# Altium schematic symbol library SCH - MCU - STM32 - ST MICROELECTRONICS STM32F303VCYX WLCSP100.SchLib: 1 symbol
Pins are listed as number, name and electrical type; pins without a type are passive.

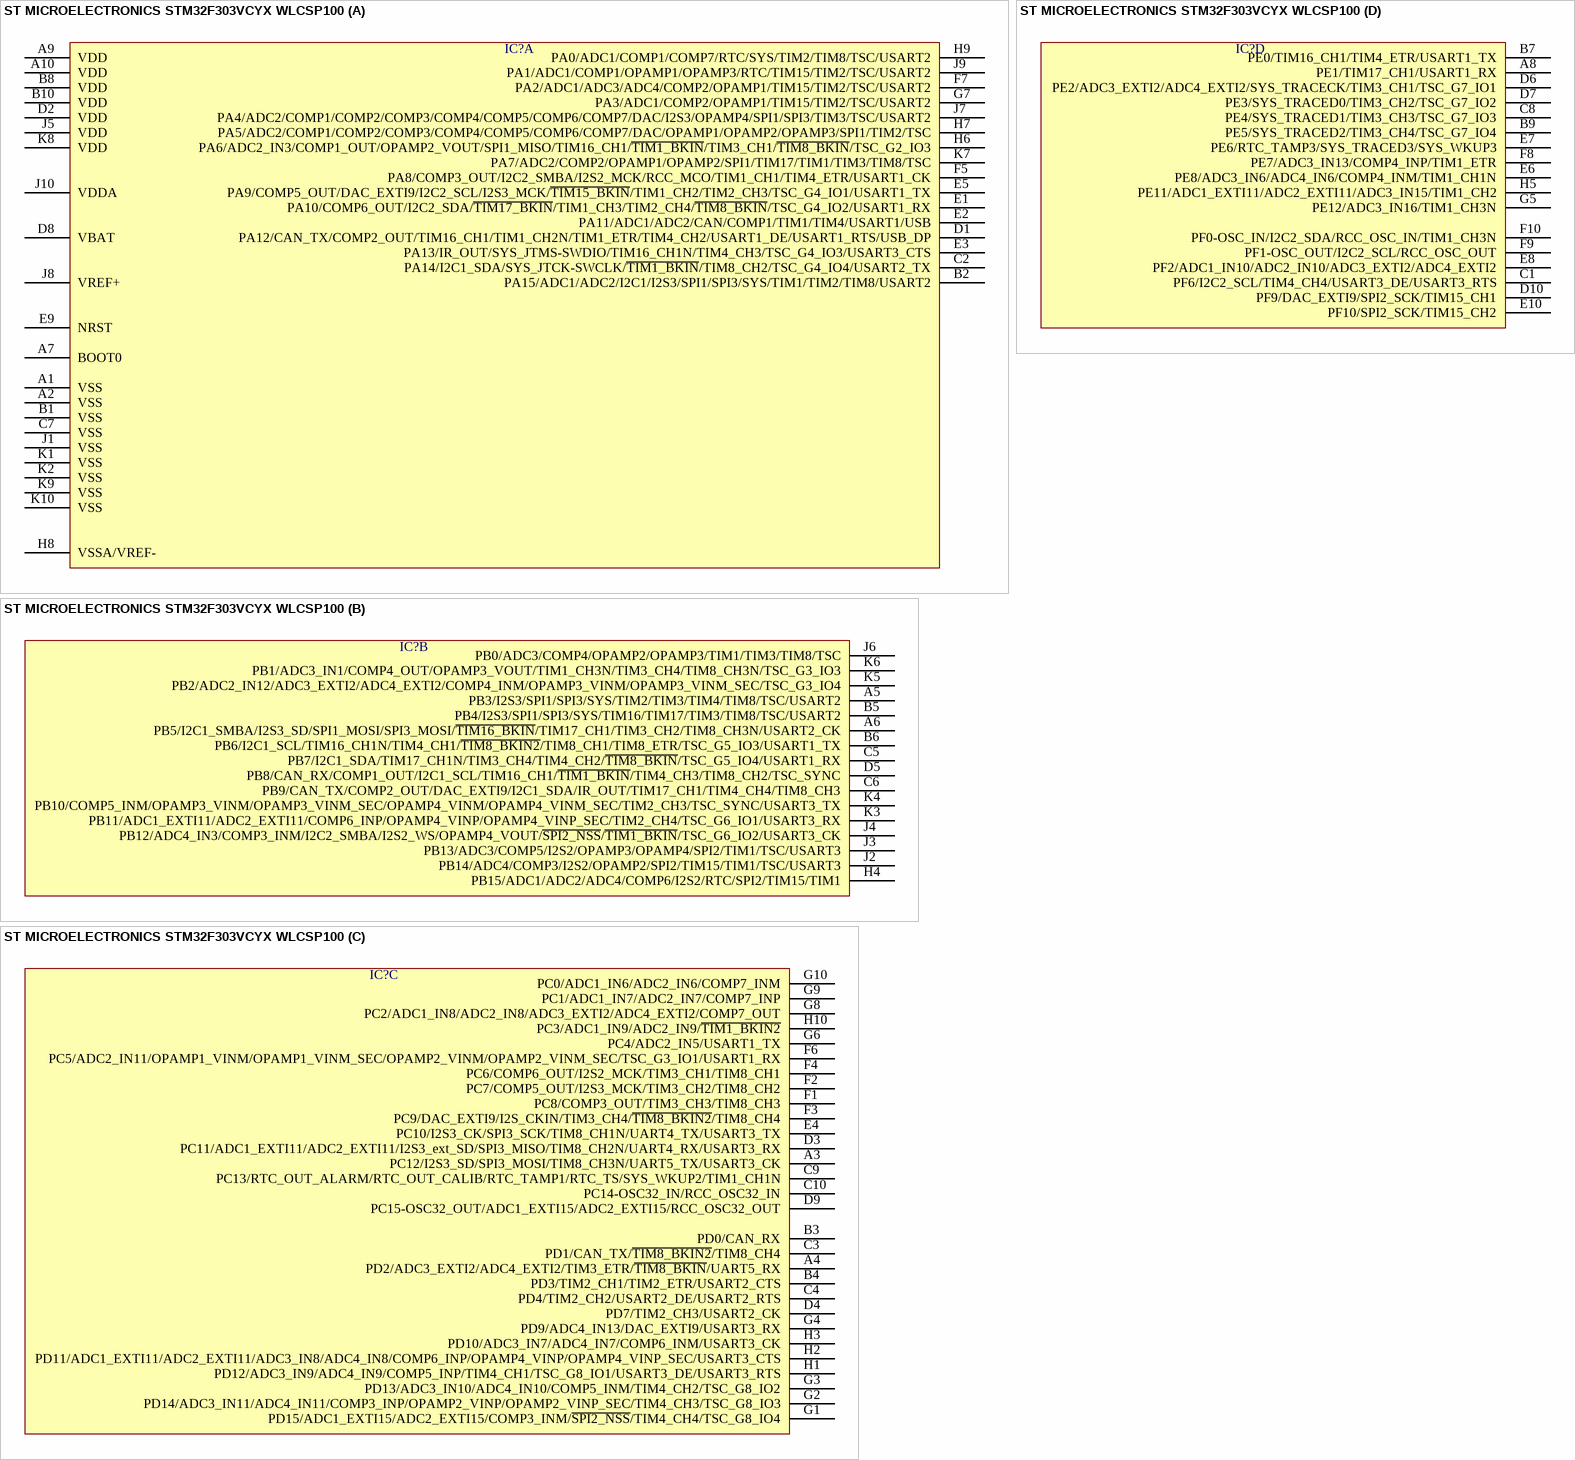
[diagram p0: symbol ST MICROELECTRONICS STM32F303VCYX WLCSP100]

## ST MICROELECTRONICS STM32F303VCYX WLCSP100
designator IC?  (value not drawn)
part A pins: A1 VSS, A2 VSS, A7 BOOT0, A9 VDD, A10 VDD, B1 VSS, B2 PA15/ADC1/ADC2/I2C1/I2S3/SPI1/SPI3/SYS/TIM1/TIM2/TIM8/USART2, B8 VDD, B10 VDD, C2 PA14/I2C1_SDA/SYS_JTCK-SWCLK/~{TIM1_BKIN}/TIM8_CH2/TSC_G4_IO4/USART2_TX, C7 VSS, D1 PA12/CAN_TX/COMP2_OUT/TIM16_CH1/TIM1_CH2N/TIM1_ETR/TIM4_CH2/USART1_DE/USART1_RTS/USB_DP, D2 VDD, D8 VBAT, E1 PA10/COMP6_OUT/I2C2_SDA/~{TIM17_BKIN}/TIM1_CH3/TIM2_CH4/~{TIM8_BKIN}/TSC_G4_IO2/USART1_RX, E2 PA11/ADC1/ADC2/CAN/COMP1/TIM1/TIM4/USART1/USB, E3 PA13/IR_OUT/SYS_JTMS-SWDIO/TIM16_CH1N/TIM4_CH3/TSC_G4_IO3/USART3_CTS, E5 PA9/COMP5_OUT/DAC_EXTI9/I2C2_SCL/I2S3_MCK/~{TIM15_BKIN}/TIM1_CH2/TIM2_CH3/TSC_G4_IO1/USART1_TX, E9 NRST, F5 PA8/COMP3_OUT/I2C2_SMBA/I2S2_MCK/RCC_MCO/TIM1_CH1/TIM4_ETR/USART1_CK, F7 PA2/ADC1/ADC3/ADC4/COMP2/OPAMP1/TIM15/TIM2/TSC/USART2, G7 PA3/ADC1/COMP2/OPAMP1/TIM15/TIM2/TSC/USART2, H6 PA6/ADC2_IN3/COMP1_OUT/OPAMP2_VOUT/SPI1_MISO/TIM16_CH1/~{TIM1_BKIN}/TIM3_CH1/~{TIM8_BKIN}/TSC_G2_IO3, H7 PA5/ADC2/COMP1/COMP2/COMP3/COMP4/COMP5/COMP6/COMP7/DAC/OPAMP1/OPAMP2/OPAMP3/SPI1/TIM2/TSC, H8 VSSA/VREF-, H9 PA0/ADC1/COMP1/COMP7/RTC/SYS/TIM2/TIM8/TSC/USART2, J1 VSS, J5 VDD, J7 PA4/ADC2/COMP1/COMP2/COMP3/COMP4/COMP5/COMP6/COMP7/DAC/I2S3/OPAMP4/SPI1/SPI3/TIM3/TSC/USART2, J8 VREF+, J9 PA1/ADC1/COMP1/OPAMP1/OPAMP3/RTC/TIM15/TIM2/TSC/USART2, J10 VDDA, K1 VSS, K2 VSS, K7 PA7/ADC2/COMP2/OPAMP1/OPAMP2/SPI1/TIM17/TIM1/TIM3/TIM8/TSC, K8 VDD, K9 VSS, K10 VSS
part B pins: A5 PB3/I2S3/SPI1/SPI3/SYS/TIM2/TIM3/TIM4/TIM8/TSC/USART2, A6 PB5/I2C1_SMBA/I2S3_SD/SPI1_MOSI/SPI3_MOSI/~{TIM16_BKIN}/TIM17_CH1/TIM3_CH2/TIM8_CH3N/USART2_CK, B5 PB4/I2S3/SPI1/SPI3/SYS/TIM16/TIM17/TIM3/TIM8/TSC/USART2, B6 PB6/I2C1_SCL/TIM16_CH1N/TIM4_CH1/~{TIM8_BKIN2}/TIM8_CH1/TIM8_ETR/TSC_G5_IO3/USART1_TX, C5 PB7/I2C1_SDA/TIM17_CH1N/TIM3_CH4/TIM4_CH2/~{TIM8_BKIN}/TSC_G5_IO4/USART1_RX, C6 PB9/CAN_TX/COMP2_OUT/DAC_EXTI9/I2C1_SDA/IR_OUT/TIM17_CH1/TIM4_CH4/TIM8_CH3, D5 PB8/CAN_RX/COMP1_OUT/I2C1_SCL/TIM16_CH1/~{TIM1_BKIN}/TIM4_CH3/TIM8_CH2/TSC_SYNC, H4 PB15/ADC1/ADC2/ADC4/COMP6/I2S2/RTC/SPI2/TIM15/TIM1, J2 PB14/ADC4/COMP3/I2S2/OPAMP2/SPI2/TIM15/TIM1/TSC/USART3, J3 PB13/ADC3/COMP5/I2S2/OPAMP3/OPAMP4/SPI2/TIM1/TSC/USART3, J4 PB12/ADC4_IN3/COMP3_INM/I2C2_SMBA/I2S2_WS/OPAMP4_VOUT/~{SPI2_NSS}/~{TIM1_BKIN}/TSC_G6_IO2/USART3_CK, J6 PB0/ADC3/COMP4/OPAMP2/OPAMP3/TIM1/TIM3/TIM8/TSC, K3 PB11/ADC1_EXTI11/ADC2_EXTI11/COMP6_INP/OPAMP4_VINP/OPAMP4_VINP_SEC/TIM2_CH4/TSC_G6_IO1/USART3_RX, K4 PB10/COMP5_INM/OPAMP3_VINM/OPAMP3_VINM_SEC/OPAMP4_VINM/OPAMP4_VINM_SEC/TIM2_CH3/TSC_SYNC/USART3_TX, K5 PB2/ADC2_IN12/ADC3_EXTI2/ADC4_EXTI2/COMP4_INM/OPAMP3_VINM/OPAMP3_VINM_SEC/TSC_G3_IO4, K6 PB1/ADC3_IN1/COMP4_OUT/OPAMP3_VOUT/TIM1_CH3N/TIM3_CH4/TIM8_CH3N/TSC_G3_IO3
part C pins: A3 PC12/I2S3_SD/SPI3_MOSI/TIM8_CH3N/UART5_TX/USART3_CK, A4 PD2/ADC3_EXTI2/ADC4_EXTI2/TIM3_ETR/~{TIM8_BKIN}/UART5_RX, B3 PD0/CAN_RX, B4 PD3/TIM2_CH1/TIM2_ETR/USART2_CTS, C3 PD1/CAN_TX/~{TIM8_BKIN2}/TIM8_CH4, C4 PD4/TIM2_CH2/USART2_DE/USART2_RTS, C9 PC13/RTC_OUT_ALARM/RTC_OUT_CALIB/RTC_TAMP1/RTC_TS/SYS_WKUP2/TIM1_CH1N, C10 PC14-OSC32_IN/RCC_OSC32_IN, D3 PC11/ADC1_EXTI11/ADC2_EXTI11/I2S3_ext_SD/SPI3_MISO/TIM8_CH2N/UART4_RX/USART3_RX, D4 PD7/TIM2_CH3/USART2_CK, D9 PC15-OSC32_OUT/ADC1_EXTI15/ADC2_EXTI15/RCC_OSC32_OUT, E4 PC10/I2S3_CK/SPI3_SCK/TIM8_CH1N/UART4_TX/USART3_TX, F1 PC8/COMP3_OUT/TIM3_CH3/TIM8_CH3, F2 PC7/COMP5_OUT/I2S3_MCK/TIM3_CH2/TIM8_CH2, F3 PC9/DAC_EXTI9/I2S_CKIN/TIM3_CH4/~{TIM8_BKIN2}/TIM8_CH4, F4 PC6/COMP6_OUT/I2S2_MCK/TIM3_CH1/TIM8_CH1, F6 PC5/ADC2_IN11/OPAMP1_VINM/OPAMP1_VINM_SEC/OPAMP2_VINM/OPAMP2_VINM_SEC/TSC_G3_IO1/USART1_RX, G1 PD15/ADC1_EXTI15/ADC2_EXTI15/COMP3_INM/~{SPI2_NSS}/TIM4_CH4/TSC_G8_IO4, G2 PD14/ADC3_IN11/ADC4_IN11/COMP3_INP/OPAMP2_VINP/OPAMP2_VINP_SEC/TIM4_CH3/TSC_G8_IO3, G3 PD13/ADC3_IN10/ADC4_IN10/COMP5_INM/TIM4_CH2/TSC_G8_IO2, G4 PD9/ADC4_IN13/DAC_EXTI9/USART3_RX, G6 PC4/ADC2_IN5/USART1_TX, G8 PC2/ADC1_IN8/ADC2_IN8/ADC3_EXTI2/ADC4_EXTI2/COMP7_OUT, G9 PC1/ADC1_IN7/ADC2_IN7/COMP7_INP, G10 PC0/ADC1_IN6/ADC2_IN6/COMP7_INM, H1 PD12/ADC3_IN9/ADC4_IN9/COMP5_INP/TIM4_CH1/TSC_G8_IO1/USART3_DE/USART3_RTS, H2 PD11/ADC1_EXTI11/ADC2_EXTI11/ADC3_IN8/ADC4_IN8/COMP6_INP/OPAMP4_VINP/OPAMP4_VINP_SEC/USART3_CTS, H3 PD10/ADC3_IN7/ADC4_IN7/COMP6_INM/USART3_CK, H10 PC3/ADC1_IN9/ADC2_IN9/~{TIM1_BKIN2}
part D pins: A8 PE1/TIM17_CH1/USART1_RX, B7 PE0/TIM16_CH1/TIM4_ETR/USART1_TX, B9 PE5/SYS_TRACED2/TIM3_CH4/TSC_G7_IO4, C1 PF6/I2C2_SCL/TIM4_CH4/USART3_DE/USART3_RTS, C8 PE4/SYS_TRACED1/TIM3_CH3/TSC_G7_IO3, D6 PE2/ADC3_EXTI2/ADC4_EXTI2/SYS_TRACECK/TIM3_CH1/TSC_G7_IO1, D7 PE3/SYS_TRACED0/TIM3_CH2/TSC_G7_IO2, D10 PF9/DAC_EXTI9/SPI2_SCK/TIM15_CH1, E6 PE8/ADC3_IN6/ADC4_IN6/COMP4_INM/TIM1_CH1N, E7 PE6/RTC_TAMP3/SYS_TRACED3/SYS_WKUP3, E8 PF2/ADC1_IN10/ADC2_IN10/ADC3_EXTI2/ADC4_EXTI2, E10 PF10/SPI2_SCK/TIM15_CH2, F8 PE7/ADC3_IN13/COMP4_INP/TIM1_ETR, F9 PF1-OSC_OUT/I2C2_SCL/RCC_OSC_OUT, F10 PF0-OSC_IN/I2C2_SDA/RCC_OSC_IN/TIM1_CH3N, G5 PE12/ADC3_IN16/TIM1_CH3N, H5 PE11/ADC1_EXTI11/ADC2_EXTI11/ADC3_IN15/TIM1_CH2